# Altium schematic symbol library Под микроконтроллеры.SchLib: 21 symbols
Pins are listed as number, name and electrical type; pins without a type are passive.

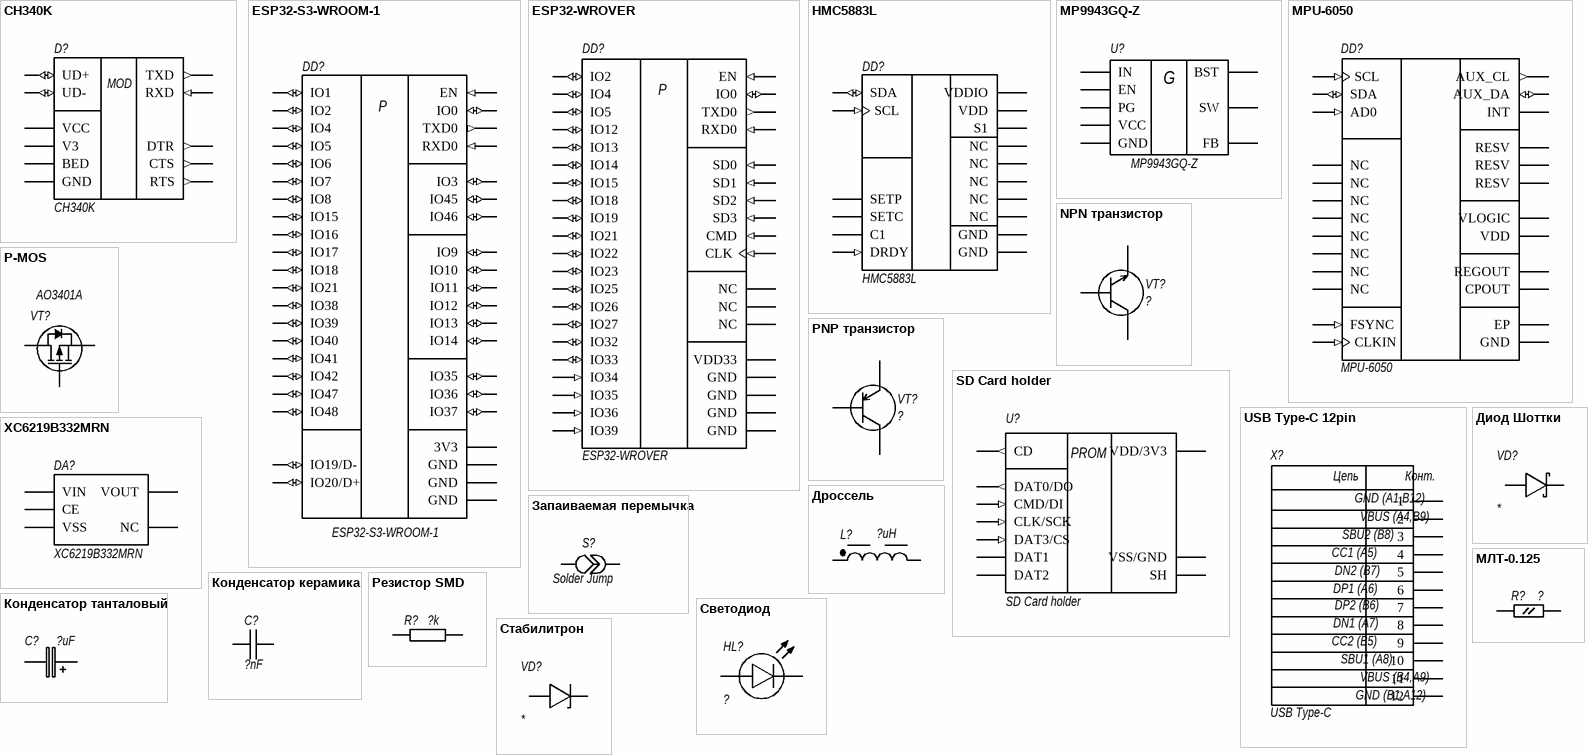
[diagram p0: symbols CH340K to Стабилитрон]

## CH340K
designator D?
USB-RS232 ESSOP10
footprint CH340K no bed (SOP, 10-Leads, Body 5,00x3,90mm, Pitch 1,00mm, Thermal Pad 3,20x2,30mm, IPC Medium Density)
pins: 1 UD+ (io), 2 UD- (io), 3 GND (power), 4 DTR (out), 5 CTS (out), 6 RTS (out), 7 VCC (power), 8 TXD (out), 9 RXD (in), 10 V3 (power), 11 BED (power)
text: MOD

## ESP32-S3-WROOM-1
designator DD?
RX TXRX MOD WIFI SURFACE MOUNT; Frequency: 2.5GHz; Sensitivity: -98dBm; Operating Supply Voltage: 3.6V; Data Rate: 150Mbps; Weight: 0.088185oz; Package Quantity: 550; Min Operating Temperature: -40°C; Mount: Surface Mount; Max Operating Temperature: 85°C; Packaging: Cut Tape; Case/Package: SMD/SMT
footprint ESP32-S3-WROOM-1 (PCB ANTENNA - 41 PIN)
pins: 1 GND (power), 2 3V3 (power) "Power supply", 3 EN (in) "Chip Enable", 4 IO4 (io) "RTC_GPIO4, GPIO4, TOUCH4, ADC1_CH3", 5 IO5 (io) "RTC_GPIO5, GPIO5, TOUCH5, ADC1_CH4", 6 IO6 (io) "RTC_GPIO6, GPIO6, TOUCH6, ADC1_CH5", 7 IO7 (io) "RTC_GPIO7, GPIO7, TOUCH7, ADC1_CH6", 8 IO15 (io) "RTC_GPIO15, GPIO15, U0RTS, ADC2_CH4, XTAL_32K_P", 9 IO16 (io) "RTC_GPIO16, GPIO16, U0CTS, ADC2_CH5, XTAL_32K_N", 10 IO17 (io) "RTC_GPIO17, GPIO17, U1TXD, ADC2_CH6", 11 IO18 (io) "RTC_GPIO18, GPIO18, U1RXD, ADC2_CH7, CLK_OUT3", 12 IO8 (io) "RTC_GPIO8, GPIO8, TOUCH8, ADC1_CH7, SUBSPICS1", 13 IO19/D- (io) "RTC_GPIO19, GPIO19, U1RTS, ADC2_CH8, CLK_OUT2, USB_D", 14 IO20/D+ (io) "RTC_GPIO20, GPIO20, U1CTS, ADC2_CH9, CLK_OUT1, USB_D+", 15 IO3 (io) "RTC_GPIO3, GPIO3, TOUCH3, ADC1_CH2", 16 IO46 (io) "GPIO46", 17 IO9 (io) "RTC_GPIO9, GPIO9, TOUCH9, ADC1_CH8, FSPIHD, SUBSPIHD", 18 IO10 (io) "RTC_GPIO10, GPIO10, TOUCH10, ADC1_CH9, FSPICS0, FSPIIO4, SUBSPICS0", 19 IO11 (io) "RTC_GPIO11, GPIO11, TOUCH11, ADC2_C0, FSPID, FSPIIO5, SUBSPID", 20 IO12 (io) "RTC_GPIO12, GPIO12, TOUCH12, ADC2_CH1, FSPICLK, FSPIIO6, SUBSPICLK", 21 IO13 (io) "RTC_GPIO13, GPIO13, TOUCH13, ADC2_CH2, FSPIQ, FSPIIO7, SUBSPIQ", 22 IO14 (io) "RTC_GPIO14, GPIO14, TOUCH14, ADC2_CH3, FSPIWP, FSPIDQS, SUBSPIWP", 23 IO21 (io) "RTC_GPIO21, GPIO21", 24 IO47 (io) "SPICLK_P_DIFF,GPIO47, SUBSPICLK_P_DIFF", 25 IO48 (io) "SPICLK_N_DIFF,GPIO48, SUBSPICLK_N_DIFF", 26 IO45 (io) "GPIO45", 27 IO0 (io) "RTC_GPIO0, GPIO0", 28 IO35 (io) "SPIIO6, GPIO35, FSPID, SUBSPID", 29 IO36 (io) "SPIIO7, GPIO36, FSPICLK, SUBSPICLK", 30 IO37 (io) "SPIDQS, GPIO37, FSPIQ, SUBSPIQ", 31 IO38 (io) "GPIO38, FSPIWP, SUBSPIWP", 32 IO39 (io) "MTCK, GPIO39, CLK_OUT3, SUBSPICS1", 33 IO40 (io) "MTDO, GPIO40, CLK_OUT2", 34 IO41 (io) "MTDI, GPIO41, CLK_OUT1", 35 IO42 (io) "MTMS, GPIO42", 36 RXD0 (in) "U0RXD, GPIO44, CLK_OUT2", 37 TXD0 (out) "U0TXD, GPIO43, CLK_OUT1", 38 IO2 (io) "RTC_GPIO2, GPIO2, TOUCH2, ADC1_CH1", 39 IO1 (io) "RTC_GPIO1, GPIO1, TOUCH1, ADC1_CH0", 40 GND (power), 41 GND (power)
text: P

## ESP32-WROVER
designator DD?
SMD MODULE, ESP32-D0WDQ6, 32MBIT; Manufacturer: Espressif Systems; Interface: I2C,SPI,UART,I2S,Other; Number Of Adc Channels: 16; Data Rate: 150Mbits/s; Number Of Gpio: 20; Sensitivity: -98dBm; Max Frequency: 2.5GHz; Bandwidth: 0.1GHz; Max Supply Voltage: 3.6V; Min Supply Voltage: 2.3V; Nominal Supply Current: 80mA; Height: 3.4mm; Device Class L3: Transceivers; Octopart: https://octopart.com/esp32-wrover-espressif+systems-89171348; Device Class L2: RF Semiconductors and Devices; ComponentLink2Description: Datasheet; RoHS: TRUE; Lead Free: Yes; Device Class L1: Integrated Circuits (ICs); Temperature Range High: +85°C; Digikey Description: SMD MODULE, ESP32-D0WDQ6, 32MBIT; Package: ESP32-WROVER; Mouser Description: Bluetooth and Wi-Fi Module 2.4GHz to 2.5GHz 2.3V to 3.6V 38-Pin SMD Module; Temperature: -40°C to +85°C; Category: UNK; Manufacturer Part Number: ESP32-WROVER; Automotive: No; Temperature Range Low: -40°C; ComponentLink2URL: https://forum.upverter.com/uploads/default/original/3X/1/9/19ab4f33dd815ce1b2b0bb210f0ab7d5aab1dea3.pdf
footprint FP-ESP32-WROVER-MFG
pins: 1 GND (power), 2 VDD33 (power), 3 EN (in), 4 IO36 (in), 5 IO39 (in), 6 IO34 (in), 7 IO35 (in), 8 IO32 (io), 9 IO33 (io), 10 IO25 (io), 11 IO26 (io), 12 IO27 (io), 13 IO14 (io), 14 IO12 (io), 15 GND (power), 16 IO13 (io), 17 SD2 (in), 18 SD3 (in), 19 CMD (in), 20 CLK (in), 21 SD0 (in), 22 SD1 (in), 23 IO15 (io), 24 IO2 (io), 25 IO0 (io), 26 IO4 (io), 27 NC, 28 NC, 29 IO5 (io), 30 IO18 (io), 31 IO19 (io), 32 NC, 33 IO21 (io), 34 RXD0 (in), 35 TXD0 (out), 36 IO22 (io), 37 IO23 (io), 38 GND (power), 39 GND (power)
text: P

## HMC5883L
designator DD?
SENSOR MR I2C 16LCC; Min Supply Voltage: 2.16V; Operating Supply Current: 100uA; Max Supply Voltage: 3.6V; Operating Supply Voltage: 2.5V; Min Operating Temperature: -30°C; Interface: I2C; Max Operating Temperature: 85°C; Package Quantity: 4000; REACH SVHC: No SVHC; Case/Package: LCC; Packaging: Tape and Reel; Number of Pins: 16; Radiation Hardening: No; ClassName: Compass
footprint FP-QMC5883L
pins: 1 SCL (in), 2 VDD (power), 3 NC, 4 S1, 5 NC, 6 NC, 7 NC, 8 SETP, 9 GND (power), 10 C1, 11 GND (power), 12 SETC, 13 VDDIO (power), 14 NC, 15 DRDY (in), 16 SDA (io)

## MP9943GQ-Z
designator U?
High Efficiency 3A Peak, 36V, / Synchronous Step Down Converter / With Power Good; ClassName: DCDC
footprint MP9943 QFN8
pins: 1 FB (power), 2 VCC (power), 3 EN (power), 4 BST (power), 5 GND (power), 6 SW (power), 7 IN (power), 8 PG (power)
text: G

## MPU-6050
designator DD?
3-Axis Gyroscope, Accelerometer and a Digital Motion Processor(TM) (DMP), 2.375 to 3.46 V, -40 to 85 degC, 24-Pin QFN, RoHS, Tape and Reel; Manufacturer: InvenSense; Featured Product: MPU-60506-Axis,IntegratedI²CSolution; Other Names: 1428-1007-2 / MPU6050; Sensor Type: MotionTracking; Online Catalog: MPU-6000™Series; Unit PriceUSD: Digital; Datasheet Version: Rev. 3.3, 05/2012; Category: Sensors,Transducers; Datasheet URL: http://datasheet.octopart.com/MPU-6050-InvenSense-datasheet-14421344.pdf; Family: Multifunction; Standard Package: 5,000; Manufacturer URL: http://www.invensense.com/; Output Type: Digital; Dynamic Catalog: MPU-6000™Series; Parameter 1: *; ClassName: IMU
footprint IS-QFN-24_V (QFN, 24-Leads, Body 4x4mm, Pitch 0.5mm, Thermal Pad 2.7x2.6mm)
pins: 1 CLKIN (in) "Optional external reference clock input. Connect to GND if unused.", 2 NC "Not internally connected. May be used for PCB trace routing", 3 NC "Not internally connected. May be used for PCB trace routing", 4 NC "Not internally connected. May be used for PCB trace routing", 5 NC "Not internally connected. May be used for PCB trace routing", 6 AUX_DA (io) "I2C master serial data, for connecting to external sensors", 7 AUX_CL (out) "I2C Master serial clock, for connecting to external sensors", 8 VLOGIC (power) "Digital I/O supply voltage", 9 AD0 (in) "I2C Slave Address LSB (AD0)", 10 REGOUT "Regulator filter capacitor connection", 11 FSYNC (in) "Frame synchronization digital input. Connect to GND if unused.", 12 INT (oc) "Interrupt digital output (totem pole or open-drain)", 13 VDD (power) "Power supply voltage and Digital I/O supply voltage", 14 NC "Not internally connected. May be used for PCB trace routing", 15 NC "Not internally connected. May be used for PCB trace routing", 16 NC "Not internally connected. May be used for PCB trace routing", 17 NC "Not internally connected. May be used for PCB trace routing", 18 GND (power) "Power supply ground", 19 RESV "Reserved. Do not connect", 20 CPOUT "Charge pump capacitor connection", 21 RESV "Reserved. Do not connect", 22 RESV "System clock output", 23 SCL (in) "System clock output  I2C serial clock (SCL)", 24 SDA (io) "I2C serial data (SDA)", 25 EP (power) "Exposed Pad"

## NPN транзистор
designator VT?, comment ?
NPN TRANSISTOR; Max Collector Current: 1.5A; Transition Frequency: 100MHz; Max Breakdown Voltage: 25V; Collector Emitter Voltage (VCEO): 400mV; Max Power Dissipation: 300mW; Case/Package: TO-236-3; Packaging: Tape and Reel; RoHS Compliant: Yes; Mount: Surface Mount; Collector Emitter Breakdown Voltage: 25V
footprint SOT-23
pins: 1 B, 2 E, 3 C

## P-MOS
designator VT?, comment AO3401A
P-Channel MOSFET; Manufacturer: Alpha and Omega; Output Power (Max): NotRequiredW; Power Dissipation: 1.4W; Rad Hardened: No; Drain Efficiency: NotRequired%; Drain-Source On-Volt: 30V; Noise Figure: NotRequireddB; Frequency (Max): NotRequiredMHz; Number of  Elements: 1; Gate-Source Voltage (Max): ?12V; Drain Current (Max): 4A; Channel Mode: Enhancement; Drain-Source On-Res: 0.044ohm; Type: PowerMOSFET; Polarity: P; Package URL: http://www.aosmd.com/res/packaging_information/SOT-23-3L.pdf; Datasheet URL: http://www.aosmd.com/res/data_sheets/AO3401A.pdf; Package Type: SOT-23; Package Description: 3-Pin Small Outline Transistor, Body 2.95 x 1.6 mm, Pitch 0.95 mm; Mounting: SurfaceMount; Manufacturer URL: http://www.aosmd.com/; Continuous Drain Current: 4A; Package Reference: SOT-23-3L; Mounting Technology: SurfaceMount; Operating Temperature Classification: Military; Power Gain: NotRequireddB; Datasheet Version: Rev. 3, 03/2011; Operating Temp Range: -55Cto150C; Pin Count: 3
footprint SOT-23
pins: 1 GATE, 2 SOURCE, 3 DRAIN

## PNP транзистор
designator VT?, comment ?
PNP TRANSISTOR; Max Collector Current: 1.5A; Transition Frequency: 100MHz; Max Breakdown Voltage: 25V; Collector Emitter Voltage (VCEO): 400mV; Max Power Dissipation: 300mW; Case/Package: TO-236-3; Packaging: Tape and Reel; RoHS Compliant: Yes; Mount: Surface Mount; Collector Emitter Breakdown Voltage: 25V
footprint SOT-23
pins: 1 B, 2 E, 3 C

## SD Card holder
designator U?
footprint SD Card holder (Micro SD Card, TF Card, Memory Card Connector, 9-Leads, Body 16.44x15.6 mm, 1.4mm Profile SMT, Push-Push (MEM2055/MEM2075))
pins: 1 DAT2, 2 DAT3/CS (in), 3 CMD/DI (in), 4 VDD/3V3 (power), 5 CLK/SCK (in), 6 VSS/GND (power), 7 DAT0/DO (out), 8 DAT1, 9 CD (out), SH
text: PROM

## USB Type-C 12pin
designator X?, comment USB Type-C
USB-C socket 12 pin        16Pin (12pin + 4 mount) Horizontal                 https://aliexpress.ru/item/1005006353547160.html?spm=a2g2w.orderdetail.0.0.5a244aa6hfTm5W&sku_id=12000041186006182; Model: *; Manufacturer: *; HelpURL: *; ComponentKind: *
footprint USB TYPE-C 12PIN (Chinese USB Type-C 12 pin)
footprint TYPEC 16pin vertical
pins: 1 (power) "GND", 2 (power) "VBUS", 3 "CC1", 4 "SB2", 5 (power) "D+", 6 "D-", 7 (power) "D+", 8 (power) "D-", 9 (power) "CC2", 10 (power) "SB1", 11 (power) "VBUS", 12 (power) "GND"
text: Цепь; Конт.; GND (A1,B12); VBUS (A4,B9); SBU2 (B8); CC1 (A5); DN2 (B7); DP1 (A6); DP2 (B6); DN1 (A7); CC2 (B5); SBU1 (A8); VBUS (B4,A9); GND (B1,A12)

## XC6219B332MRN
designator DA?
Voltage stabilizer 3.3v 350mA; Manufacturer_Name: Torex; Datasheet Link: https://componentsearchengine.com/Datasheets/2/XC6219B332MRN.pdf; Height: 1.3mm; Manufacturer_Part_Number: XC6219B332MRN; ClassName: Power
footprint SOT95P280X130-5N
pins: 1 VIN, 2 VSS, 3 CE, 4 NC, 5 VOUT

## Диод Шоттки
designator VD?
footprint FP-SOD123-IPC_B
pins: 1, 2

## Дроссель
designator L?, comment ?uH
NexarPartId: 22866852; RMS Current (Irms): 420mA; Shielding: Shielded; Inductance: 150µH; Self Resonant Frequency: 7MHz; Saturation Current: 220mA; Core Material: Ferrite; Inductance Tolerance: 30%; DC Resistance (DCR): 770mΩ; Test Frequency: 100kHz; Max Operating Temperature: 125°C; Case/Package: 1919; Height - Seated (Max): 2.9972mm; Packaging: Tape & Reel (TR); Case Code (Imperial): 1919; Min Operating Temperature: -40°C; Current Rating: 420mA; Width: 4.8mm; Ambient Temperature Range High: 95°C; Ambient Temperature Range Low: -40°C; Mount: Surface Mount; Composition: Wirewound; Number of Pins: 2; REACH SVHC: Unknown; RoHS: Compliant; Case Code (Metric): 4848; Tolerance: 30%; Height: 2.8mm; Length: 4.8mm; Max DC Current: 420mA; Termination: SMD/SMT
footprint WE-TPC_4828 (Power Inductor, SMD, 2-Leads, body 4.8x4.8mm)
pins: 1, 2

## Запаиваемая перемычка
designator S?, comment Solder Jump
Нормально замкнута
footprint Solder bridge middle
footprint Solder bridge large
pins: 1, 2

## Конденсатор керамика
designator C?, comment ?nF
ClassName: DCDC
footprint CAPC2012X10N (Chip Capacitor, 2-Leads, Body 2,05x1,20mm, IPC Medium Density)
pins: 1 +, 2 -

## Конденсатор танталовый
designator C?, comment ?uF
Capacitor Polarised; Manufacturer_Name: Vishay; Manufacturer_Part_Number: 293D475X9010A2TE3; Datasheet Link: http://www.vishay.com/docs/40002/293d.pdf; Height: 1.8mm; Mouser Part Number: 74-293D475X9010A2TE3; Mouser Price/Stock: https://www.mouser.co.uk/ProductDetail/Vishay-Sprague/293D475X9010A2TE3?qs=zj6zwI%252Bv92RDYyeabgx%252B6w%3D%3D; Arrow Part Number: 293D475X9010A2TE3; Arrow Price/Stock: https://www.arrow.com/en/products/293d475x9010a2te3/vishay; ClassName: DCDC
footprint FP-TPSD-MFG
footprint FP-TAJB-MFG
footprint FP-TAJA-MFG
pins: 1 +, 2 -

## МЛТ-0.125
designator R?, comment ?
footprint МЛТ-0.125
pins: 1, 2

## Резистор SMD
designator R?, comment ?k
SMD resistors with differents footprints
footprint RES0805 (Chip Resistor, 2-Leads, Body 2.1x1.35mm, IPC Low Density)
pins: 1 7, 2 8

## Светодиод
designator HL?, comment ?
footprint LED 0805 (SMD, 2-Leads, Body 2x1.25mm, Height 0.8mm)
pins: 1, 2

## Стабилитрон
designator VD?
footprint FP-DO-213AA-MFG
pins: 1, 2